# EAGLE library part 691401710004 (library Wuerth_Elektronik_eiCan_Terminal_Blocks_v2.0)
WR-TBL Serie 401 - 5.0mm Screwless Horizontal Entry - 2 mm2 Wires, 4 Pins
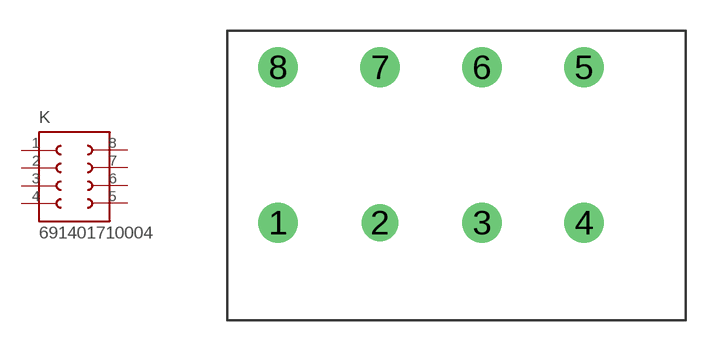
[diagram p233: symbol with the pads of 691401710004; footprint 691401710004]

Designator prefix K

## 691401710004  [691401710004]
1  1  pas
2  2  pas
3  3  pas
4  4  pas
5  5  pas
6  6  pas
7  7  pas
8  8  pas

## Footprint 691401710004 (pad centres in mm)
WR-TBL Serie 401 - 5.0mm Screwless Horizontal Entry - 2 mm2 Wires, 4 Pins
drill 1.3 round: 1 -5,0; 3 5,0; 4 10,0; 5 10,7.62; 6 5,7.62; 7 0,7.62; 8 -5,7.62
drill 1.2 round: 2 0,0